# EAGLE library part EHF-120-01-XX-D- (library con-samtec-ips1)
CONN HEADER .05" 40POS DUAL
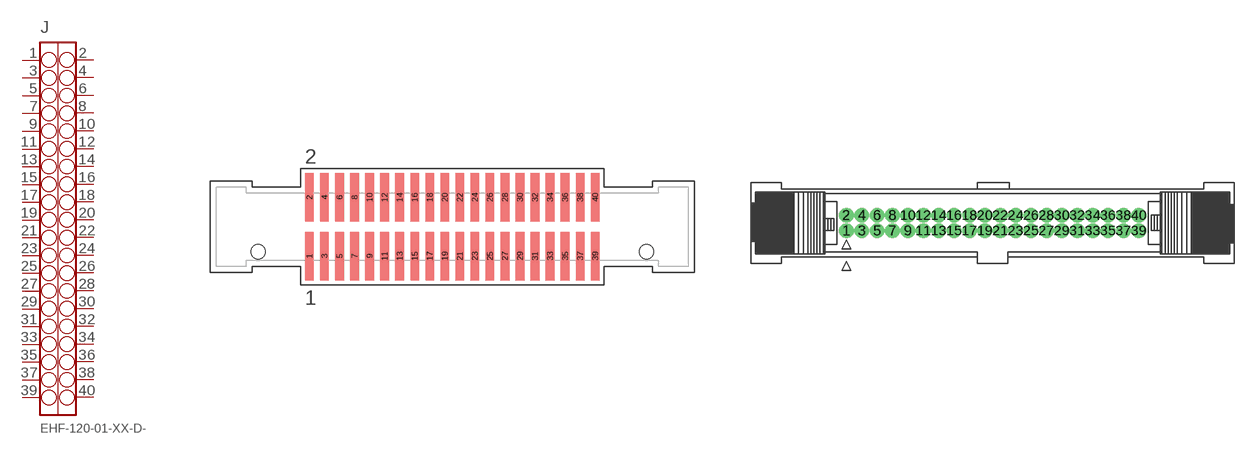
[diagram p23: symbol with the pads of EHF-120-01-XX-D-SM-LC; footprints EHF-120-01-XX-D-SM-LC, EHF-120-01-L-D]

Designator prefix J

## EHF-120-01-XX-D-  [EHF-120-01-XX-D-SM-LC]
1  1
2  2
3  3
4  4
5  5
6  6
7  7
8  8
9  9
10  10
11  11
12  12
13  13
14  14
15  15
16  16
17  17
18  18
19  19
20  20
21  21
22  22
23  23
24  24
25  25
26  26
27  27
28  28
29  29
30  30
31  31
32  32
33  33
34  34
35  35
36  36
37  37
38  38
39  39
40  40

## EHF-120-01-XX-D-TH (DIGIKEY: SAM8211-ND)  [EHF-120-01-L-D]
Pads as for EHF-120-01-XX-D-SM-LC

## Footprint EHF-120-01-XX-D-SM-LC (pad centres in mm)
0.050" EJECTOR HEADER ASSEMBLY.
smd 0.737 x 4.089: 1 -12.065,-2.477; 2 -12.065,2.477; 3 -10.795,-2.477; 4 -10.795,2.477; 5 -9.525,-2.477; 6 -9.525,2.477; 7 -8.255,-2.477; 8 -8.255,2.477; 9 -6.985,-2.477; 10 -6.985,2.477; 11 -5.715,-2.477; 12 -5.715,2.477; 13 -4.445,-2.477; 14 -4.445,2.477; 15 -3.175,-2.477; 16 -3.175,2.477; 17 -1.905,-2.477; 18 -1.905,2.477; 19 -0.635,-2.477; 20 -0.635,2.477; 21 0.635,-2.477; 22 0.635,2.477; 23 1.905,-2.477; 24 1.905,2.477; 25 3.175,-2.477; 26 3.175,2.477; 27 4.445,-2.477; 28 4.445,2.477; 29 5.715,-2.477; 30 5.715,2.477; 31 6.985,-2.477; 32 6.985,2.477; 33 8.255,-2.477; 34 8.255,2.477; 35 9.525,-2.477; 36 9.525,2.477; 37 10.795,-2.477; 38 10.795,2.477; 39 12.065,-2.477; 40 12.065,2.477
hole 1.194 at -16.383,-2.108
hole 1.194 at 16.383,-2.108

## Footprint EHF-120-01-L-D (pad centres in mm)
drill 0.711 pad 0.711: 1 -12.065,-0.635; 2 -12.065,0.635; 3 -10.795,-0.635; 4 -10.795,0.635; 5 -9.525,-0.635; 6 -9.525,0.635; 7 -8.255,-0.635; 8 -8.255,0.635; 9 -6.985,-0.635; 10 -6.985,0.635; 11 -5.715,-0.635; 12 -5.715,0.635; 13 -4.445,-0.635; 14 -4.445,0.635; 15 -3.175,-0.635; 16 -3.175,0.635; 17 -1.905,-0.635; 18 -1.905,0.635; 19 -0.635,-0.635; 20 -0.635,0.635; 21 0.635,-0.635; 22 0.635,0.635; 23 1.905,-0.635; 24 1.905,0.635; 25 3.175,-0.635; 26 3.175,0.635; 27 4.445,-0.635; 28 4.445,0.635; 29 5.715,-0.635; 30 5.715,0.635; 31 6.985,-0.635; 32 6.985,0.635; 33 8.255,-0.635; 34 8.255,0.635; 35 9.525,-0.635; 36 9.525,0.635; 37 10.795,-0.635; 38 10.795,0.635; 39 12.065,-0.635; 40 12.065,0.635